# Altium footprint library footprints.PcbLib: 17 footprints (part 1 of 2)
Each footprint in its own frame and in the unit in brackets; x right, y up, seen from the top. Pads: shape width x height; smd on the part's side, far side on the other; paste and mask are expansions set on the pad; w line width, h text height; cw(c..) or ccw(c..) is an arc to the next point about the centre after c.
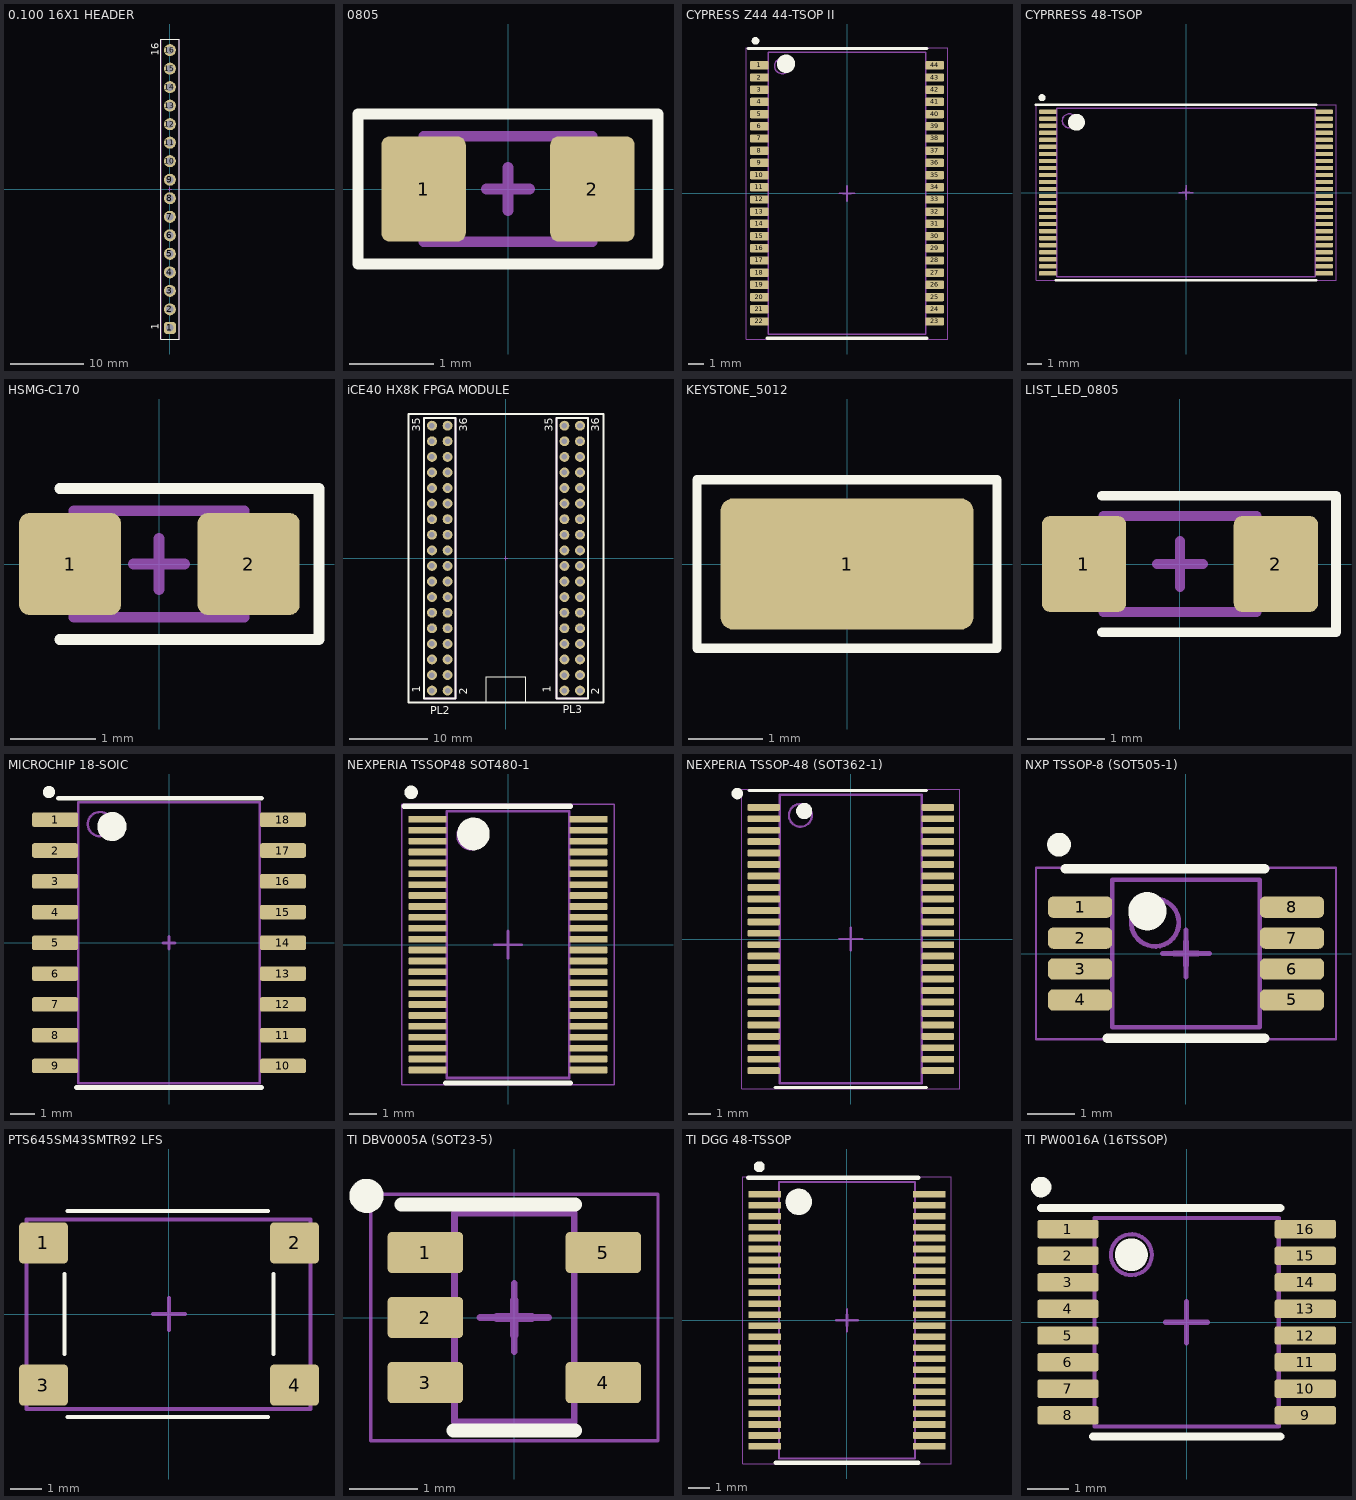
[diagram p0: the footprints below, top view; thin cyan lines are the x and y axes]

## 0.100 16X1 HEADER [mil] "HEADER"
height 300
pads (16):
  rrect50% 65x65 hole 40: 1(0,-750)
  round 65 hole 40: 2(0,-650) 3(0,-550) 4(0,-450) 5(0,-350) 6(0,-250) 7(0,-150) 8(0,-50) 9(0,50) 10(0,150) 11(0,250) 12(0,350) 13(0,450) 14(0,550) 15(0,650) 16(0,750)
Top Overlay:
  lines w5: -50,-809.84 50,-809.84 50,809.84 -50,809.84 -50,-809.84
  text "1" at -60,-760 h40
  text "16" at -60,720 h40
Bottom Overlay:
  text "16" at -60,780 h40
  text "1" at -60,-740 h40
Top Assembly:
  lines w5: -10,0 10,0 ; 0,-10 0,10 ; -50,-809.84 50,-809.84 50,809.84 -50,809.84 -50,-809.84
3D body "_ _ _C161LFBN-RC.STEP": height 334.65, standoff -125.98, extent -50,-809.84 50,809.84

## 0805 [mm]
height 0.5
pads (2):
  rrect20% 1x1.25 smd: 1(-1,0) 2(1,0)
Top Overlay:
  lines w0.127: -1.778,-0.889 -1.778,0.889 1.778,0.889 1.778,-0.889 -1.778,-0.889
Top Assembly:
  lines w0.127: -0.254,0 0.254,0 ; 0,-0.254 0,0.254 ; -1,-0.625 1,-0.625 1,0.625 -1,0.625 -1,-0.625
3D body: height 0.5, standoff 0, extent -1,-0.625 1,0.625
3D body: height 2, standoff -2, extent -1.397,0.635 -1.397,0.635

## CYPRESS Z44 44-TSOP II [mm] "44-TSOP"
height 1.2
pads (44):
  rrect20% 1.2x0.55 smd mask+0.076: 1(-5.75,8.4) 2(-5.75,7.6) 3(-5.75,6.8) 4(-5.75,6) 5(-5.75,5.2) 6(-5.75,4.4) 7(-5.75,3.6) 8(-5.75,2.8) 9(-5.75,2) 10(-5.75,1.2) 11(-5.75,0.4) 12(-5.75,-0.4) 13(-5.75,-1.2) 14(-5.75,-2) 15(-5.75,-2.8) 16(-5.75,-3.6) 17(-5.75,-4.4) 18(-5.75,-5.2) 19(-5.75,-6) 20(-5.75,-6.8) 21(-5.75,-7.6) 22(-5.75,-8.4) 23(5.75,-8.4) 24(5.75,-7.6) 25(5.75,-6.8) 26(5.75,-6) 27(5.75,-5.2) 28(5.75,-4.4) 29(5.75,-3.6) 30(5.75,-2.8) 31(5.75,-2) 32(5.75,-1.2) 33(5.75,-0.4) 34(5.75,0.4) 35(5.75,1.2) 36(5.75,2) 37(5.75,2.8) 38(5.75,3.6) 39(5.75,4.4) 40(5.75,5.2) 41(5.75,6) 42(5.75,6.8) 43(5.75,7.6) 44(5.75,8.4)
Top Overlay:
  circle w0.25: c-6,10 r0.125
  circle w0.6: c-4,8.5 r0.3
  lines w0.2: -6.5,9.5 5.25,9.5 ; -5.25,-9.5 5.25,-9.5
Top Assembly:
  circle w0.1: c-4.25,8.35 r0.5
  lines w0.1: -5.15,-9.25 5.15,-9.25 5.15,9.25 -5.15,9.25 -5.15,-9.25
  lines w0.127: -0.254,0 0.254,0 ; 0,-0.254 0,0.254
Mechanical 15:
  lines w0.05: -6.6,-9.55 -6.6,9.55 6.6,9.55 6.6,-9.55 -6.6,-9.55
  lines w0.1: -0.5,0 0.5,0 ; 0,-0.5 0,0.5
3D body "CYPRESS Z44 44-TSOP II.step": height 1.19, standoff 0, extent -5.918,-9.25 5.918,9.25

## CYPRRESS 48-TSOP [mm] "48-TSOP"
height 1.2
pads (48):
  rrect20% 1.25x0.3 smd mask+0.05: 1(-9.825,5.75) 2(-9.825,5.25) 3(-9.825,4.75) 4(-9.825,4.25) 5(-9.825,3.75) 6(-9.825,3.25) 7(-9.825,2.75) 8(-9.825,2.25) 9(-9.825,1.75) 10(-9.825,1.25) 11(-9.825,0.75) 12(-9.825,0.25) 13(-9.825,-0.25) 14(-9.825,-0.75) 15(-9.825,-1.25) 16(-9.825,-1.75) 17(-9.825,-2.25) 18(-9.825,-2.75) 19(-9.825,-3.25) 20(-9.825,-3.75) 21(-9.825,-4.25) 22(-9.825,-4.75) 23(-9.825,-5.25) 24(-9.825,-5.75) 25(9.825,-5.75) 26(9.825,-5.25) 27(9.825,-4.75) 28(9.825,-4.25) 29(9.825,-3.75) 30(9.825,-3.25) 31(9.825,-2.75) 32(9.825,-2.25) 33(9.825,-1.75) 34(9.825,-1.25) 35(9.825,-0.75) 36(9.825,-0.25) 37(9.825,0.25) 38(9.825,0.75) 39(9.825,1.25) 40(9.825,1.75) 41(9.825,2.25) 42(9.825,2.75) 43(9.825,3.25) 44(9.825,3.75) 45(9.825,4.25) 46(9.825,4.75) 47(9.825,5.25) 48(9.825,5.75)
Top Overlay:
  circle w0.6: c-7.8,5 r0.3
  circle w0.25: c-10.25,6.75 r0.125
  lines w0.2: -10.675,6.25 9.25,6.25 ; -9.25,-6.25 9.25,-6.25
Top Assembly:
  circle w0.1: c-8.3,5.1 r0.5
  lines w0.1: -9.2,-6 -9.2,6 9.2,6 9.2,-6 -9.2,-6
  lines w0.127: -0.254,0 0.254,0 ; 0,-0.254 0,0.254
Mechanical 15:
  lines w0.05: -10.675,-6.25 10.675,-6.25 10.675,6.25 -10.675,6.25 -10.675,-6.25
  lines w0.1: -0.5,0 0.5,0 ; 0,-0.5 0,0.5
3D body "CYPRRESS 48-TSOP.step": height 1.2, standoff 0, extent -10,-6 10,6

## HSMG-C170 [mm] "0805 LED"
height 0.8
pads (2):
  rrect20% 1.2x1.2 smd: 1(-1.05,0) 2(1.05,0)
Top Overlay:
  lines w0.127: -1.172,-0.889 1.876,-0.889 1.876,0.889 -1.172,0.889
Top Assembly:
  lines w0.127: -0.303,0 0.297,0 ; -0.003,-0.3 -0.003,0.3 ; -1.003,-0.625 0.997,-0.625 0.997,0.625 -1.003,0.625 -1.003,-0.625
3D body: height 0.8, standoff 0, extent -0.8,-0.6 0.8,0.6
3D body: height 0.3, standoff 0, extent -1,-0.625 1,0.625

## iCE40 HX8K FPGA MODULE [mm] "iCE40 HX8K FPGA MODULE"
pads (72):
  round 1.27 hole 0.711: PL2_1(-9.5,-17) PL2_2(-7.5,-17) PL2_3(-9.5,-15) PL2_4(-7.5,-15) PL2_5(-9.5,-13) PL2_6(-7.5,-13) PL2_7(-9.5,-11) PL2_8(-7.5,-11) PL2_9(-9.5,-9) PL2_10(-7.5,-9) PL2_11(-9.5,-7) PL2_12(-7.5,-7) PL2_13(-9.5,-5) PL2_14(-7.5,-5) PL2_15(-9.5,-3) PL2_16(-7.5,-3) PL2_17(-9.5,-1) PL2_18(-7.5,-1) PL2_19(-9.5,1) PL2_20(-7.5,1) PL2_21(-9.5,3) PL2_22(-7.5,3) PL2_23(-9.5,5) PL2_24(-7.5,5) PL2_25(-9.5,7) PL2_26(-7.5,7) PL2_27(-9.5,9) PL2_28(-7.5,9) PL2_29(-9.5,11) PL2_30(-7.5,11) PL2_31(-9.5,13) PL2_32(-7.5,13) PL2_33(-9.5,15) PL2_34(-7.5,15) PL2_35(-9.5,17) PL2_36(-7.5,17) PL3_1(7.5,-17) PL3_2(9.5,-17) PL3_3(7.5,-15) PL3_4(9.5,-15) PL3_5(7.5,-13) PL3_6(9.5,-13) PL3_7(7.5,-11) PL3_8(9.5,-11) PL3_9(7.5,-9) PL3_10(9.5,-9) PL3_11(7.5,-7) PL3_12(9.5,-7) PL3_13(7.5,-5) PL3_14(9.5,-5) PL3_15(7.5,-3) PL3_16(9.5,-3) PL3_17(7.5,-1) PL3_18(9.5,-1) PL3_19(7.5,1) PL3_20(9.5,1) PL3_21(7.5,3) PL3_22(9.5,3) PL3_23(7.5,5) PL3_24(9.5,5) PL3_25(7.5,7) PL3_26(9.5,7) PL3_27(7.5,9) PL3_28(9.5,9) PL3_29(7.5,11) PL3_30(9.5,11) PL3_31(7.5,13) PL3_32(9.5,13) PL3_33(7.5,15) PL3_34(9.5,15) PL3_35(7.5,17) PL3_36(9.5,17)
Top Overlay:
  lines w0.152: -2.54,-18.415 -2.54,-15.24 2.54,-15.24 2.54,-18.415
  lines w0.254: -12.5,-18.5 -12.5,18.5 12.5,18.5 12.5,-18.5 -12.5,-18.5 ; -10.5,-18 -6.5,-18 -6.5,18 -10.5,18 -10.5,-18 ; 6.5,-18 6.5,18 10.5,18 10.5,-18 6.5,-18
  text "1" at -11,-17.25 h1.02
  text "2" at -5,-17.5 h1.02
  text "35" at -11,16.25 h1.02
  text "36" at -5,16.25 h1.02
  text "PL2" at -9.75,-20 h1.02
  text "PL3" at 7.3,-19.9 h1.02
  text "36" at 12,16.25 h1.02
  text "35" at 6,16.25 h1.02
  text "2" at 12,-17.5 h1.02
  text "1" at 5.75,-17.25 h1.02
Top Assembly:
  lines w0.127: -0.254,0 0.254,0 ; 0,-0.254 0,0.254
  lines w0.254: -10.5,-18 -6.5,-18 -6.5,18 -10.5,18 -10.5,-18 ; 6.5,-18 6.5,18 10.5,18 10.5,-18 6.5,-18
3D body "SQW-118-01-L-D.stp": height 6.35, standoff -2.29, extent 6.5,-18.149 10.5,18.149
3D body "SQW-118-01-L-D.stp": height 6.35, standoff -2.29, extent -10.5,-18.149 -6.5,18.148

## KEYSTONE_5012 [mm] "TEST POINT PC"
height 1.52
pads (1):
  rrect20% 3.43x1.78 smd: 1(0,0)
Top Overlay:
  lines w0.127: -2.032,-1.143 2.032,-1.143 2.032,1.143 -2.032,1.143 -2.032,-1.143
Top Assembly:
  lines w0.127: -0.254,0 0.254,0 ; 0,-0.254 0,0.254
3D body "User Library-5015.step": height 1.5, standoff 0, extent -1.278,-0.517 1.279,0.483

## LIST_LED_0805 [mm]
height 0.8
pads (2):
  rrect20% 1.1x1.25 smd: 1(-1.25,0) 2(1.25,0)
Top Overlay:
  lines w0.127: -1.016,-0.889 2.032,-0.889 2.032,0.889 -1.016,0.889
Top Assembly:
  lines w0.127: -0.3,0 0.3,0 ; 0,-0.3 0,0.3 ; -1,-0.625 1,-0.625 1,0.625 -1,0.625 -1,-0.625
3D body: height 0.8, standoff 0, extent -0.8,-0.6 0.8,0.6
3D body: height 0.3, standoff 0, extent -1,-0.625 1,0.625

## MICROCHIP 18-SOIC [mm] "SOIC, 18-Leads, Body 11.55x7.50mm, Pitch 1.27mm, IPC Medium Density"
height 2.65
pads (18):
  rrect30% 1.9x0.6 smd: 1(-4.7,5.08) 2(-4.7,3.81) 3(-4.7,2.54) 4(-4.7,1.27) 5(-4.7,0) 6(-4.7,-1.27) 7(-4.7,-2.54) 8(-4.7,-3.81) 9(-4.7,-5.08) 10(4.7,-5.08) 11(4.7,-3.81) 12(4.7,-2.54) 13(4.7,-1.27) 14(4.7,0) 15(4.7,1.27) 16(4.7,2.54) 17(4.7,3.81) 18(4.7,5.08)
Top Overlay:
  circle w0.6: c-2.35,4.8 r0.3
  circle w0.25: c-4.953,6.223 r0.125
  lines w0.2: -4.572,5.969 3.81,5.969 ; -3.81,-5.969 3.81,-5.969
Top Assembly:
  circle w0.1: c-2.85,4.9 r0.5
  lines w0.1: -3.75,-5.8 3.75,-5.8 3.75,5.8 -3.75,5.8 -3.75,-5.8
  lines w0.127: -0.254,0 0.254,0 ; 0,-0.254 0,0.254
3D body "MICROCHIP 18-SOIC.step": height 2.65, standoff 0, extent -5.15,-5.8 5.15,5.8

## NEXPERIA TSSOP48 SOT480-1 [mm] "TSSOP48"
height 1.1
pads (48):
  rrect20% 1.4x0.246 smd mask+0.025: 1(-2.95,4.6) 2(-2.95,4.2) 3(-2.95,3.8) 4(-2.95,3.4) 5(-2.95,3) 6(-2.95,2.6) 7(-2.95,2.2) 8(-2.95,1.8) 9(-2.95,1.4) 10(-2.95,1) 11(-2.95,0.6) 12(-2.95,0.2) 13(-2.95,-0.2) 14(-2.95,-0.6) 15(-2.95,-1) 16(-2.95,-1.4) 17(-2.95,-1.8) 18(-2.95,-2.2) 19(-2.95,-2.6) 20(-2.95,-3) 21(-2.95,-3.4) 22(-2.95,-3.8) 23(-2.95,-4.2) 24(-2.95,-4.6) 25(2.95,-4.6) 26(2.95,-4.2) 27(2.95,-3.8) 28(2.95,-3.4) 29(2.95,-3) 30(2.95,-2.6) 31(2.95,-2.2) 32(2.95,-1.8) 33(2.95,-1.4) 34(2.95,-1) 35(2.95,-0.6) 36(2.95,-0.2) 37(2.95,0.2) 38(2.95,0.6) 39(2.95,1) 40(2.95,1.4) 41(2.95,1.8) 42(2.95,2.2) 43(2.95,2.6) 44(2.95,3) 45(2.95,3.4) 46(2.95,3.8) 47(2.95,4.2) 48(2.95,4.6)
Top Overlay:
  circle w0.25: c-3.556,5.588 r0.125
  circle w0.6: c-1.27,4.064 r0.3
  lines w0.2: -3.81,5.08 2.286,5.08 ; -2.286,-5.08 2.286,-5.08
Top Assembly:
  circle w0.1: c-1.35,4 r0.5
  lines w0.1: -0.5,0 0.5,0 ; 0,-0.5 0,0.5 ; -2.25,-4.9 -2.25,4.9 2.25,4.9 2.25,-4.9 -2.25,-4.9
Mechanical 15:
  lines w0.05: -3.9,-5.15 -3.9,5.15 3.9,5.15 3.9,-5.15 -3.9,-5.15
  lines w0.1: -0.5,0 0.5,0 ; 0,-0.5 0,0.5
3D body "SOP127P600-8N.step": height 1.1, standoff 0, extent -3.2,-4.9 3.2,4.9

## NEXPERIA TSSOP-48 (SOT362-1) [mm] "TSSOP-48 6.1mm body width, 0.5mm pitch"
height 1.2
pads (48):
  rrect20% 1.4x0.3 smd mask+0.05: 1(-3.8,5.75) 2(-3.8,5.25) 3(-3.8,4.75) 4(-3.8,4.25) 5(-3.8,3.75) 6(-3.8,3.25) 7(-3.8,2.75) 8(-3.8,2.25) 9(-3.8,1.75) 10(-3.8,1.25) 11(-3.8,0.75) 12(-3.8,0.25) 13(-3.8,-0.25) 14(-3.8,-0.75) 15(-3.8,-1.25) 16(-3.8,-1.75) 17(-3.8,-2.25) 18(-3.8,-2.75) 19(-3.8,-3.25) 20(-3.8,-3.75) 21(-3.8,-4.25) 22(-3.8,-4.75) 23(-3.8,-5.25) 24(-3.8,-5.75) 25(3.8,-5.75) 26(3.8,-5.25) 27(3.8,-4.75) 28(3.8,-4.25) 29(3.8,-3.75) 30(3.8,-3.25) 31(3.8,-2.75) 32(3.8,-2.25) 33(3.8,-1.75) 34(3.8,-1.25) 35(3.8,-0.75) 36(3.8,-0.25) 37(3.8,0.25) 38(3.8,0.75) 39(3.8,1.25) 40(3.8,1.75) 41(3.8,2.25) 42(3.8,2.75) 43(3.8,3.25) 44(3.8,3.75) 45(3.8,4.25) 46(3.8,4.75) 47(3.8,5.25) 48(3.8,5.75)
Top Overlay:
  circle w0.25: c-4.953,6.35 r0.125
  circle w0.5: c-2.032,5.588 r0.1
  lines w0.127: -4.445,6.477 3.302,6.477 ; -3.302,-6.477 3.302,-6.477
Top Assembly:
  circle w0.1: c-2.2,5.4 r0.5
  lines w0.1: -3.1,-6.3 -3.1,6.3 3.1,6.3 3.1,-6.3 -3.1,-6.3
Top Courtyard:
  lines w0.05: -4.75,-6.55 -4.75,6.55 4.75,6.55 4.75,-6.55 -4.75,-6.55
  lines w0.1: -0.5,0 0.5,0 ; 0,-0.5 0,0.5
3D body "NEXPERIA TSSOP-48 (SOT362-1).step": height 1.2, standoff 0, extent -4.05,-6.3 4.05,6.3

## NXP TSSOP-8 (SOT505-1) [mm]
height 1.1
pads (8):
  rrect50% 1.35x0.45 smd mask+0.05: 1(-2.225,0.975) 2(-2.225,0.325) 3(-2.225,-0.325) 4(-2.225,-0.975) 5(2.225,-0.975) 6(2.225,-0.325) 7(2.225,0.325) 8(2.225,0.975)
Top Overlay:
  circle w0.25: c-2.667,2.286 r0.125
  circle w0.6: c-0.813,0.889 r0.1
  lines w0.2: -2.54,1.778 1.651,1.778 ; -1.651,-1.778 1.651,-1.778
Top Assembly:
  circle w0.1: c-0.65,0.65 r0.5
  lines w0.1: -1.55,-1.55 -1.55,1.55 1.55,1.55 1.55,-1.55 -1.55,-1.55
  lines w0.127: -0.254,0 0.254,0 ; 0,-0.254 0,0.254
Mechanical 15:
  lines w0.05: -3.15,-1.8 -3.15,1.8 3.15,1.8 3.15,-1.8 -3.15,-1.8
  lines w0.1: -0.5,0 0.5,0 ; 0,-0.5 0,0.5
3D body "NXP TSSOP-8 (SOT505-1).step": height 1.1, standoff 0, extent -2.45,-1.55 2.45,1.55

## PTS645SM43SMTR92 LFS [mm] "Tactile Switch SPST-NO Top Actuated Surface Mount"
height 4.3
pads (4):
  rrect20% 1.55x1.3 smd: 1(-3.975,2.25) 2(3.975,2.25) 3(-3.975,-2.25) 4(3.975,-2.25)
Top Overlay:
  lines w0.127: -3.302,-1.27 -3.302,1.27 ; -3.213,-3.266 3.137,-3.266 ; -3.213,3.266 3.137,3.266 ; 3.302,-1.27 3.302,1.27
Top Assembly:
  lines w0.127: -0.508,0 0.508,0 ; 0,-0.508 0,0.508 ; -4.512,-3.01 -4.512,2.99 4.488,2.99 4.488,-3.01 -4.512,-3.01
3D body "PTS645SM43SMTR92LFS.stp": height 4.3, standoff 0, extent -4.512,-3.01 4.488,2.99

## TI DBV0005A (SOT23-5) [mm]
height 1.1
pads (5):
  rrect20% 1.1x0.6 smd: 1(-1.3,0.95) 2(-1.3,0) 3(-1.3,-0.95) 4(1.3,-0.95) 5(1.3,0.95)
Top Overlay:
  circle w0.25: c-2.159,1.778 r0.125
  lines w0.2: -1.651,1.651 0.889,1.651 ; -0.889,-1.651 0.889,-1.651
Top Assembly:
  lines w0.1: -0.875,-1.525 -0.875,1.525 0.875,1.525 0.875,-1.525 -0.875,-1.525
  lines w0.127: -0.254,0 0.254,0 ; 0,-0.254 0,0.254
Mechanical 15:
  lines w0.05: -2.1,-1.8 -2.1,1.8 2.1,1.8 2.1,-1.8 -2.1,-1.8
  lines w0.1: -0.5,0 0.5,0 ; 0,-0.5 0,0.5
3D body "TI DBV0005A (SOT23-5).step": height 1.1, standoff 0, extent -1.5,-1.525 1.5,1.525

## TI DGG 48-TSSOP [mm] "TSSOP, 48-Leads, Body 12.50x6.10mm, Pitch 0.50mm, IPC Medium Density"
height 1.2
pads (48):
  rrect20% 1.5x0.3 smd mask+0.05: 1(-3.75,5.75) 2(-3.75,5.25) 3(-3.75,4.75) 4(-3.75,4.25) 5(-3.75,3.75) 6(-3.75,3.25) 7(-3.75,2.75) 8(-3.75,2.25) 9(-3.75,1.75) 10(-3.75,1.25) 11(-3.75,0.75) 12(-3.75,0.25) 13(-3.75,-0.25) 14(-3.75,-0.75) 15(-3.75,-1.25) 16(-3.75,-1.75) 17(-3.75,-2.25) 18(-3.75,-2.75) 19(-3.75,-3.25) 20(-3.75,-3.75) 21(-3.75,-4.25) 22(-3.75,-4.75) 23(-3.75,-5.25) 24(-3.75,-5.75) 25(3.75,-5.75) 26(3.75,-5.25) 27(3.75,-4.75) 28(3.75,-4.25) 29(3.75,-3.75) 30(3.75,-3.25) 31(3.75,-2.75) 32(3.75,-2.25) 33(3.75,-1.75) 34(3.75,-1.25) 35(3.75,-0.75) 36(3.75,-0.25) 37(3.75,0.25) 38(3.75,0.75) 39(3.75,1.25) 40(3.75,1.75) 41(3.75,2.25) 42(3.75,2.75) 43(3.75,3.25) 44(3.75,3.75) 45(3.75,4.25) 46(3.75,4.75) 47(3.75,5.25) 48(3.75,5.75)
Top Overlay:
  circle w0.6: c-2.2,5.4 r0.3
  circle w0.25: c-4,7 r0.125
  lines w0.2: -4.5,6.5 3.25,6.5 ; -3.25,-6.5 3.25,-6.5
Top Assembly:
  circle w0.1: c-2.2,5.4 r0.5
  lines w0.1: -3.1,-6.3 -3.1,6.3 3.1,6.3 3.1,-6.3 -3.1,-6.3
  lines w0.127: -0.254,0 0.254,0 ; 0,-0.254 0,0.254
Mechanical 15:
  lines w0.05: -4.75,-6.55 4.75,-6.55 4.75,6.55 -4.75,6.55 -4.75,-6.55
  lines w0.1: -0.5,0 0.5,0 ; 0,-0.5 0,0.5
3D body "TI DGG 48-TSSOP.step": height 1.2, standoff 0, extent -4.05,-6.3 4.05,6.3

## TI PW0016A (16TSSOP) [mm] "16-TSSOP"
height 1.2
pads (16):
  rrect25% 1.5x0.45 smd mask+0.05: 1(-2.9,2.275) 2(-2.9,1.625) 3(-2.9,0.975) 4(-2.9,0.325) 5(-2.9,-0.325) 6(-2.9,-0.975) 7(-2.9,-1.625) 8(-2.9,-2.275) 9(2.9,-2.275) 10(2.9,-1.625) 11(2.9,-0.975) 12(2.9,-0.325) 13(2.9,0.325) 14(2.9,0.975) 15(2.9,1.625) 16(2.9,2.275)
Top Overlay:
  circle w0.25: c-3.556,3.302 r0.125
  circle w0.6: c-1.35,1.65 r0.1
  lines w0.2: -3.556,2.794 2.286,2.794 ; -2.286,-2.794 2.286,-2.794
Top Assembly:
  circle w0.1: c-1.35,1.65 r0.5
  lines w0.1: -2.25,-2.55 -2.25,2.55 2.25,2.55 2.25,-2.55 -2.25,-2.55
  lines w0.127: -0.508,0 0.508,0 ; 0,-0.508 0,0.508
3D body "TI PW0016A (16TSSOP).step": height 1.2, standoff 0, extent -3.2,-2.55 3.2,2.55